# Altium schematic symbol library PESD1IVN27-AX.SchLib: 1 symbol
Pins are listed as number, name and electrical type; pins without a type are passive.

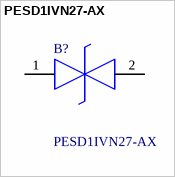
[diagram p0: symbol PESD1IVN27-AX]

## PESD1IVN27-AX
designator B?
ESD Suppressors / TVS Diodes ESD protection for In-vehicle networks; Manufacturer_Name: Nexperia; Geometry.Height: 1.1mm; Mouser Part Number: 771-PESD1IVN27-AX; Mouser Price/Stock: https://www.mouser.co.uk/ProductDetail/Nexperia/PESD1IVN27-AX?qs=0lQeLiL1qyYTtxrCfdJstQ%3D%3D; Manufacturer_Part_Number: PESD1IVN27-AX; Datasheet Link: https://assets.nexperia.com/documents/data-sheet/PESD1IVN27-A.pdf
footprint SOD2512X110N
pins: 1 K1, 2 K2